# EAGLE library part SPBT3.0DP1 (library electronic-labs)
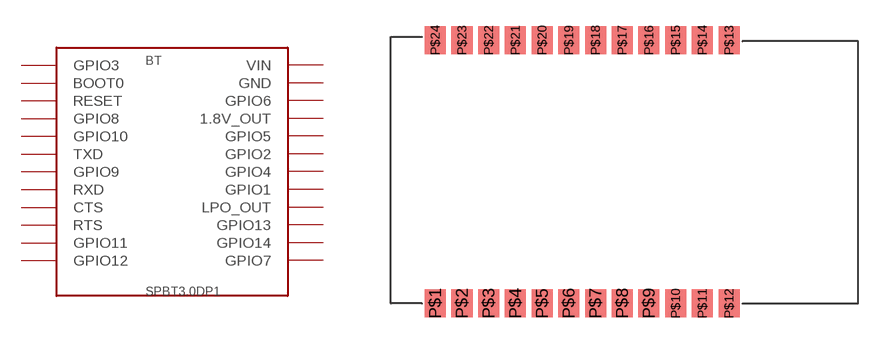
[diagram p22: symbol with the pads of SPBT3.0DP1; footprint SPBT3.0DP1]

Designator prefix BT

## SPBT3.0DP1  [SPBT3.0DP1]
P$1  GPIO3
P$2  BOOT0
P$3  RESET
P$4  GPIO8
P$5  GPIO10
P$6  TXD
P$7  GPIO9
P$8  RXD
P$9  CTS
P$10  RTS
P$11  GPIO11
P$12  GPIO12
P$13  GPIO7
P$14  GPIO14
P$15  GPIO13
P$16  LPO_OUT
P$17  GPIO1
P$18  GPIO4
P$19  GPIO2
P$20  GPIO5
P$21  1.8V_OUT
P$22  GPIO6
P$23  GND  pwr
P$24  VIN  pwr

## Footprint SPBT3.0DP1 (pad centres in mm)
smd 1.2 x 1.6: P$1 0,0; P$2 1.524,0; P$3 3.048,0; P$4 4.572,0; P$5 6.096,0; P$6 7.62,0; P$7 9.144,0; P$8 10.668,0; P$9 12.192,0; P$10 13.716,0; P$11 15.24,0; P$12 16.764,0; P$13 16.764,15.04; P$14 15.24,15.04; P$15 13.716,15.04; P$16 12.192,15.04; P$17 10.668,15.04; P$18 9.144,15.04; P$19 7.62,15.04; P$20 6.096,15.04; P$21 4.572,15.04; P$22 3.048,15.04; P$23 1.524,15.04; P$24 0,15.04